# Altium schematic symbol library STM32F103C8Tx.SchLib: 1 symbol
Pins are listed as number, name and electrical type; pins without a type are passive.

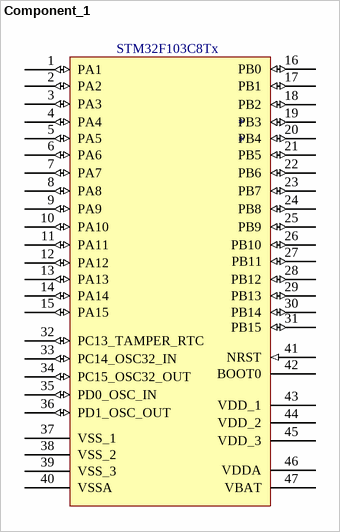
[diagram p0: symbol Component_1]

## Component_1
designator *
pins: 1 PA1 (io), 2 PA2 (io), 3 PA3 (io), 4 PA4 (io), 5 PA5 (io), 6 PA6 (io), 7 PA7 (io), 8 PA8 (io), 9 PA9 (io), 10 PA10 (io), 11 PA11 (io), 12 PA12 (io), 13 PA13 (io), 14 PA14 (io), 15 PA15 (io), 16 PB0 (io), 17 PB1 (io), 18 PB2 (io), 19 PB3 (io), 20 PB4 (io), 21 PB5 (io), 22 PB6 (io), 23 PB7 (io), 24 PB8 (io), 25 PB9 (io), 26 PB10 (io), 27 PB11 (io), 28 PB12 (io), 29 PB13 (io), 30 PB14 (io), 31 PB15 (io), 32 PC13_TAMPER_RTC (io), 33 PC14_OSC32_IN (io), 34 PC15_OSC32_OUT (io), 35 PD0_OSC_IN (io), 36 PD1_OSC_OUT (io), 37 VSS_1 (power), 38 VSS_2 (power), 39 VSS_3 (power), 40 VSSA (power), 41 NRST (in), 42 BOOT0, 43 VDD_1 (power), 44 VDD_2 (power), 45 VDD_3 (power), 46 VDDA (power), 47 VBAT (power)
text: STM32F103C8Tx